# Altium integrated library TVN_5-2415WI.IntLib: 1 symbol
Pins are listed as number, name and electrical type; pins without a type are passive.

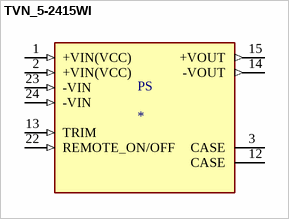
[diagram p0: symbol TVN_5-2415WI]

## TVN_5-2415WI
designator PS
Isolated Module DC DC Converter 1 Output 24V    208mA 9V - 36V Input; MF: Traco Power; MP: TVN 5-2415WI; SnapEDA_Link: https://www.snapeda.com/parts/TVN%205-2415WI/Traco%20Power/view-part/2758880/?ref=snap; Price: None; Package: DIP-24 Traco Power; Availability: Unavailable; Value: *
footprint CONV_TVN_5-2415WI
pins: 1 +VIN(VCC) (in), 2 +VIN(VCC) (in), 3 CASE (power), 12 CASE (power), 13 TRIM (in), 14 -VOUT (out), 15 +VOUT (out), 22 REMOTE_ON/OFF (in), 23 -VIN (in), 24 -VIN (in)